# Altium integrated library Connectors Debug.IntLib: 11 symbols
Pins are listed as number, name and electrical type; pins without a type are passive.

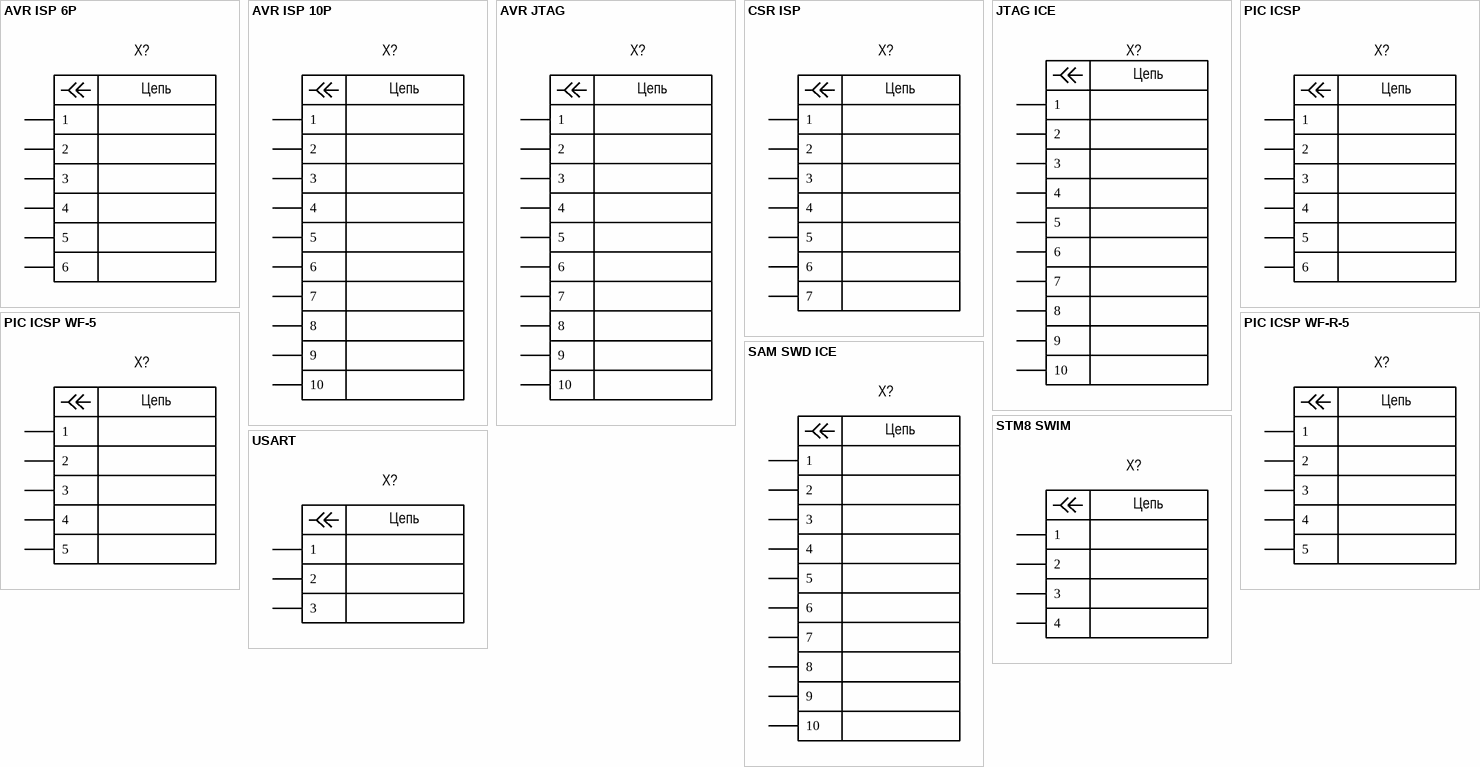
[diagram p0: symbols AVR ISP 6P to USART]

## AVR ISP 6P
designator X?, comment AVR ISP  (value not drawn)  (no BOM)
Connector Debug AVR ISP 6P2R 2.54; Manufacturer: Microchip; Group: Mechanics; Pitch: 2.50mm; Positions: 6; Rows: 2; Placing: Vertical; Shrouding: Unshrouded; Connector style: Board; Connector type: Header; Series name: WF; Dimension: 7.60mm x 5.30mm; Mounting type: Through hole; Package: DIP-6; Part name: AVR ISP; Height: 0.00mm; Component: Connector Debug; Contact type: Hole pad; Fastening type: Push-Pull; Series: 2510; System: Connector
footprint AVR ISP (Connector; Place for header 3x2pins 2.54 pitch)
pins: 1, 2, 3, 4, 5, 6
text: Цепь

## AVR ISP 10P
designator X?, comment AVR ISP  (value not drawn)  (no BOM)
Connector Debug AVR ISP 10P2R 2.54; Manufacturer: Microchip; Group: Mechanics; Pitch: 2.50mm; Positions: 6; Rows: 2; Placing: Vertical; Shrouding: Unshrouded; Connector style: Board; Connector type: Header; Series name: WF; Dimension: 7.60mm x 5.30mm; Mounting type: Through hole; Package: DIP-6; Part name: AVR ISP; Height: 0.00mm; Component: Connector Debug; Contact type: Hole pad; Fastening type: Push-Pull; Series: 2510; System: Connector
footprint AVR JTAG (Connector; Place for header 5x2pins 2.54 pitch)
footprint IDC-10/2N (Connector; Header; 5x2 Position)
pins: 1, 2, 3, 4, 5, 6, 7, 8, 9, 10
text: Цепь

## AVR JTAG
designator X?  (value not drawn)  (no BOM)
Connector Debug AVR JTAG 10P2R 2.54; Manufacturer: Microchip; Group: Mechanics; Pitch: 2.50mm; Positions: 10; Rows: 2; Placing: Vertical; Shrouding: Unshrouded; Connector style: Board; Connector type: Header; Series name: WF; Dimension: 7.60mm x 5.30mm; Mounting type: Through hole; Package: DIP-10; Part name: AVR JTAG; Height: 0.00mm; Component: Connector Debug; Contact type: Hole pad; Fastening type: Push-Pull; Series: 2510; System: Connector
footprint AVR JTAG (Connector; Place for header 5x2pins 2.54 pitch)
footprint IDC-10/2N (Connector; Header; 5x2 Position)
pins: 1, 2, 3, 4, 5, 6, 7, 8, 9, 10
text: Цепь

## CSR ISP
designator X?  (value not drawn)  (no BOM)
Connector Debug CSR ISP 7P 2.54 for DK-USB-SPI-10225.-1A; Group: Mechanics; Pitch: 2.50mm; Positions: 7; Rows: 1; Placing: Vertical; Shrouding: Unshrouded; Connector style: Board; Connector type: Header; Series name: WF; Dimension: 20.00mm x 5.00mm; Manufacturer: CSR; Mounting type: Through hole; Package: DIP-7; Part name: CSR ISP; Height: 0.00mm; Component: Connector Debug; Contact type: Hole pad; Fastening type: Push-Pull; Series: 2510; System: Connector
footprint CSR ISP (Connector; Place for header 7pins 2.54 pitch)
pins: 1, 2, 3, 4, 5, 6, 7
text: Цепь

## JTAG ICE
designator X?  (value not drawn)  (no BOM)
Connector Debug JTAG ICE 10P2R 1.27; Manufacturer: Microchip; Group: Mechanics; Pitch: 1.27mm; Positions: 10; Rows: 2; Placing: Vertical; Shrouding: Unshrouded; Connector style: Board; Connector type: Header; Series name: WF; Dimension: 7.40mm x 3.70mm; Mounting type: Through hole; Package: DIP-10; Part name: JTAG ICE; Height: 0.00mm; Component: Connector Debug; Contact type: Hole pad; Fastening type: Push-Pull; Series: 2510; System: Connector
footprint ICE (Connector; Place for header 5x2pins 1.27 pitch)
pins: 1, 2, 3, 4, 5, 6, 7, 8, 9, 10
text: Цепь

## PIC ICSP
designator X?  (value not drawn)  (no BOM)
Connector Debug PIC ICSP 6P 2.54; Manufacturer: Microchip; Group: Mechanics; Pitch: 2.54mm; Positions: 6; Rows: 1; Placing: Vertical; Shrouding: Unshrouded; Connector style: Board; Connector type: Header; Series name: WF; Dimension: 7.60mm x 5.30mm; Mounting type: Through hole; Package: DIP-6; Part name: PIC ICSP; Height: 0.00mm; Component: Connector Debug; Contact type: Hole pad; Fastening type: Push-Pull; Series: 2510; System: Connector
footprint PIC ICSP (Connector; Place for header 6pins 2.54 pitch)
pins: 1, 2, 3, 4, 5, 6
text: Цепь

## PIC ICSP WF-5
designator X?, comment WF-5  (value not drawn)  (no BOM)
Connector Debug PIC ICSP 5P 2.54 WF-5; Manufacturer: Connfly Electronic; Group: Mechanics; Pitch: 2.54mm; Positions: 6; Rows: 1; Current rating: 3.0A; Placing: Vertical; Voltage rating: 250V; Shrouding: 1 Wall; Connector style: Board; Connector type: Header; Series name: WF; Dimension: 12.70mm x 5.90mm; Operating temperature: -25°C +85°C; Mounting type: Through hole; Package: WF-5; Part name: WF-5; Height: 11.40mm; Component: Connector Debug; Insulation color: White; Contact type: Male pin; Fastening type: Push-Pull; Series: 2510; System: Connector
footprint PIC ICSP WF-5
pins: 1, 2, 3, 4, 5
text: Цепь

## PIC ICSP WF-R-5
designator X?, comment WF-R-5  (value not drawn)  (no BOM)
Connector Debug PIC ICSP 5P 2.54 WF-R-5; Manufacturer: Connfly Electronic; Group: Mechanics; Pitch: 2.54mm; Positions: 5; Rows: 1; Current rating: 3.0A; Placing: Right angle; Voltage rating: 250V; Shrouding: 1 Wall; Connector style: Board; Connector type: Header; Series name: WF; Dimension: 12.70mm x 13.90mm; Operating temperature: -25°C +85°C; Mounting type: Through hole; Package: WF-R-5; Part name: WF-R-5; Height: 5.90mm; Component: Connector Debug; Insulation color: White; Contact type: Male pin; Fastening type: Push-Pull; Series: 2510; System: Connector
footprint PIC ICSP WF-R-5
pins: 1, 2, 3, 4, 5
text: Цепь

## SAM SWD ICE
designator X?, comment AVR ISP  (value not drawn)  (no BOM)
Connector Debug SAM SWD ICE 10P2R 1.27; Manufacturer: Microchip; Group: Mechanics; Pitch: 1.27mm; Positions: 10; Rows: 2; Placing: Vertical; Shrouding: Unshrouded; Connector style: Board; Connector type: Header; Series name: WF; Dimension: 7.40mm x 3.70mm; Mounting type: Through hole; Package: DIP-10; Part name: AVR ISP; Height: 0.00mm; Component: Connector Debug; Contact type: Hole pad; Fastening type: Push-Pull; Series: 2510; System: Connector
footprint ICE (Connector; Place for header 5x2pins 1.27 pitch)
pins: 1, 2, 3, 4, 5, 6, 7, 8, 9, 10
text: Цепь

## STM8 SWIM
designator X?  (value not drawn)  (no BOM)
Connector Debug STM8 SWIM 4P 2.54; Manufacturer: ST; Group: Mechanics; Pitch: 2.50mm; Positions: 4; Rows: 1; Placing: Vertical; Shrouding: Unshrouded; Connector style: Board; Connector type: Header; Series name: WF; Dimension: 12.00mm x 5.00mm; Mounting type: Through hole; Package: DIP-4; Part name: STM8 SWIM; Height: 0.00mm; Component: Connector Debug; Contact type: Hole pad; Fastening type: Push-Pull; Series: 2510; System: Connector
footprint STM8 SWIM (Connector; Place for header 4pins 2.54 pitch)
pins: 1, 2, 3, 4
text: Цепь

## USART
designator X?  (value not drawn)  (no BOM)
Connector Debug USART 3P 2.54; Manufacturer: Murashkin; Group: Mechanics; Pitch: 2.50mm; Positions: 3; Rows: 1; Placing: Vertical; Shrouding: Unshrouded; Connector style: Board; Connector type: Header; Series name: WF; Dimension: 9.80mm x 11.50mm; Mounting type: Through hole; Package: DIP-3; Part name: USART; Height: 0.00mm; Component: Connector Debug; Contact type: Hole pad; Fastening type: Push-Pull; Series: 2510; System: Connector
footprint USART (Connector; Place for header 3pins 2.54 pitch)
pins: 1, 2, 3
text: Цепь